# EAGLE library part AMO091-12832BFG02-H14 (library Module)
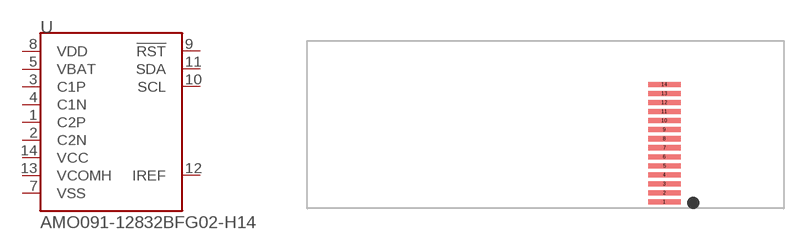
[diagram p0: symbol with the pads of AMO091-12832BFG02-H14; footprint AMO091-12832BFG02-H14]

Designator prefix U

## AMO091-12832BFG02-H14 (PROD_ID: LCD-21145)  [AMO091-12832BFG02-H14]
1  C2P
2  C2N
3  C1P
4  C1N
5  VBAT
7  VSS
8  VDD
9  !RST!
10  SCL
11  SDA
12  IREF
13  VCOMH
14  VCC

## Footprint AMO091-12832BFG02-H14 (pad centres in mm)
QG-2832TLBFG02 Mechanical Specifications: Pad Size: 2mm x .32mm Pin count:14 Pin pitch: .62 Package Size: 40mm x 11.5mm
smd 2.2 x 0.35: 1 -0.066,-3.746; 2 -0.066,-3.126; 3 -0.066,-2.506; 4 -0.066,-1.886; 5 -0.066,-1.266; 6 -0.066,-0.646; 7 -0.066,-0.026; 8 -0.066,0.594; 9 -0.066,1.214; 10 -0.066,1.834; 11 -0.066,2.454; 12 -0.066,3.074; 13 -0.066,3.694; 14 -0.066,4.314